# EAGLE library part MA06-1 (library we-con)
Pin Header
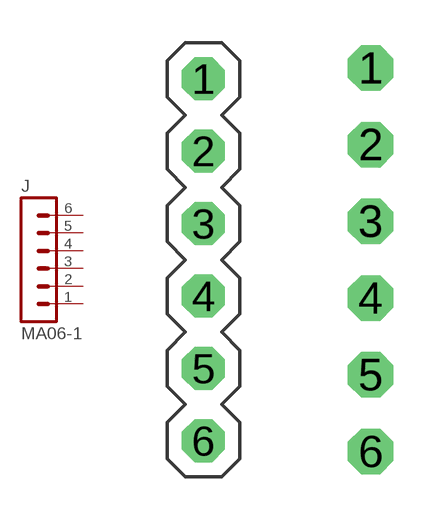
[diagram p4: symbol with the pads of MA06-1; footprints MA06-1, MA06-1_N]

Designator prefix J

## MA06-1  [MA06-1]
1  1  pas
2  2  pas
3  3  pas
4  4  pas
5  5  pas
6  6  pas

## MA06-1N  [MA06-1_N]
Pads as for MA06-1

## Footprint MA06-1 (pad centres in mm)
drill 1 octagon: 1 0,6.35; 2 0,3.81; 3 0,1.27; 4 0,-1.27; 5 0,-3.81; 6 0,-6.35

## Footprint MA06-1_N (pad centres in mm)
drill 1 octagon: 1 0,6.35; 2 0,3.81; 3 0,1.27; 4 0,-1.27; 5 0,-3.81; 6 0,-6.35